# Altium schematic symbol library Public Library.SchLib: 53 symbols
Pins are listed as number, name and electrical type; pins without a type are passive.

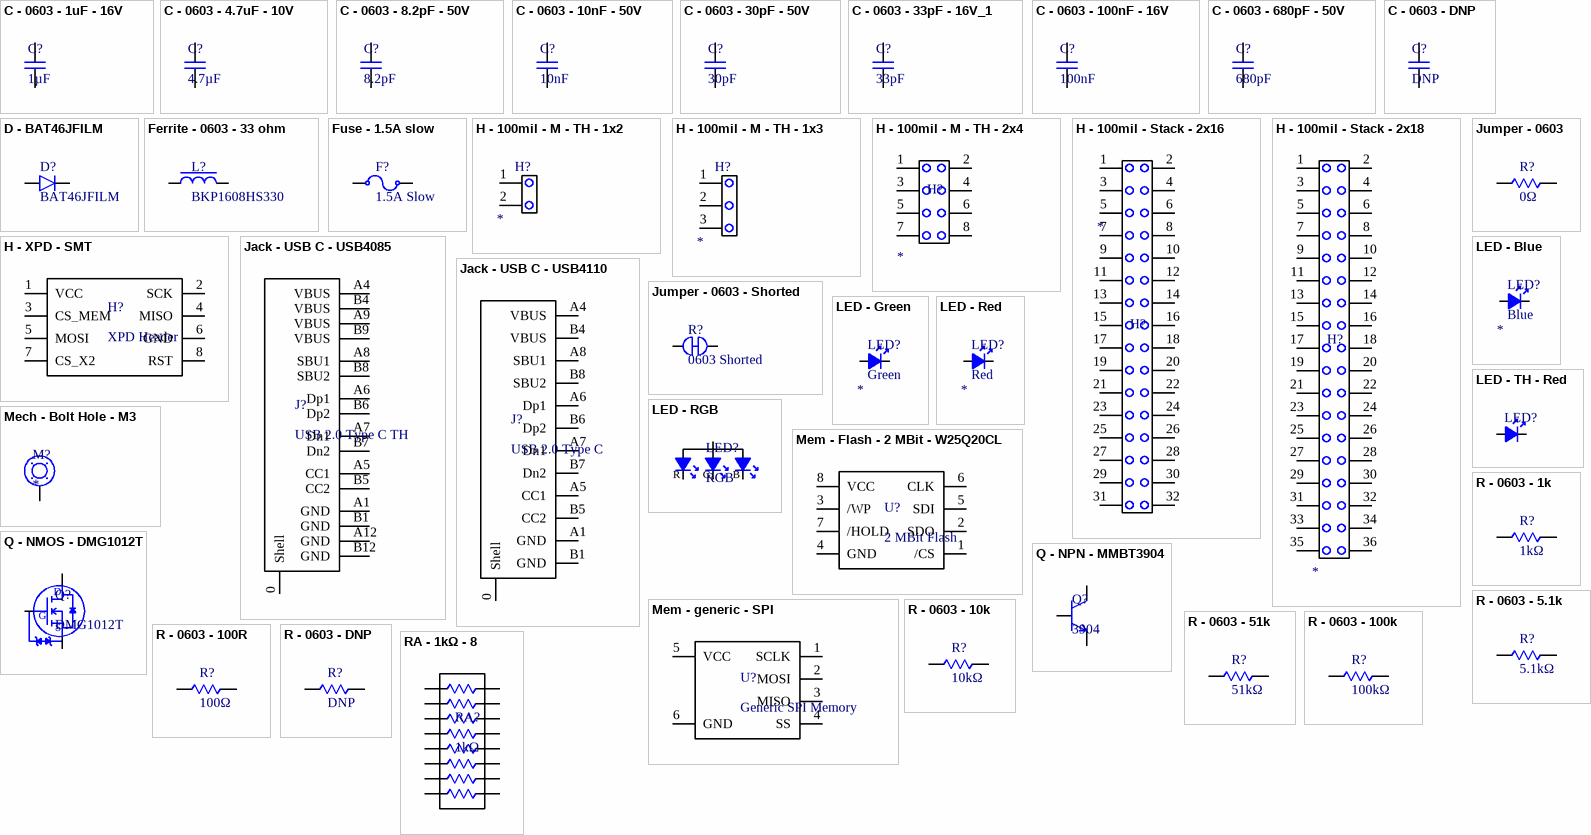
[diagram p0: symbols C - 0603 - 1uF - 16V to RA - 1kΩ - 8]

## C - 0603 - 1uF - 16V
designator C?, comment 1µF
CAP CER 1UF 16V X5R 0603; MFG: Yageo; MFG PN: CC0603KRX5R7BB105; Tolerance: ±10%; Op Temp: -55°C ~ 85°C; Digi-Key PN: 311-1444-1-ND; Value: 1µF; Package: 0603; Temp Coeff: X5R; Series: CC; Price/1 @10: $0.10700; Height: 0.90mm; Composition: Ceramic; Voltage - Rated: 16V; Mounting Type: Surface Mount, MLCC
footprint 0603 - C (from Yageo R)
pins: 1, 2

## C - 0603 - 4.7uF - 10V
designator C?, comment 4.7µF
CAP CER 4.7UF 10V X5R 0603; MFG: Yageo; MFG PN: CC0603MRX5R6BB475; Tolerance: ±20%; Op Temp: -55°C ~ 85°C; Digi-Key PN: 311-1820-1-ND; Value: 4.7µF; Package: 0603; Temp Coeff: X5R; Series: CC; Price/1 @10: $0.172; Height: 0.90mm; Composition: Ceramic; Voltage - Rated: 10V; Mounting Type: Surface Mount, MLCC
footprint 0603 - C (from Yageo R)
pins: 1, 2

## C - 0603 - 8.2pF - 50V
designator C?, comment 8.2pF
CAP CER 8.2PF 50V NPO 0603; MFG: Yageo; MFG PN: CC0603CRNPO9BN8R2; Tolerance: ±0.25pF; Temp Coeff: NP0; Op Temp: -55°C ~ 125°C; Digi-Key PN: 311-3865-1-ND; Value: 8.2pF; Package: 0603; Series: CC; Price/1 @10: $0.084; Height: 0.90mm; Composition: Ceramic; Voltage - Rated: 50V; Mounting Type: Surface Mount, MLCC
footprint 0603 - C (from Yageo R)
pins: 1, 2

## C - 0603 - 10nF - 50V
designator C?, comment 10nF
CAP CER 10000PF 50V X7R 0603; MFG: Yageo; MFG PN: CC0603JRX7R9BB103; Tolerance: ±5%; Op Temp: -55°C ~ 125°C; Digi-Key PN: 311-1778-1-ND; Value: 10000pF; Package: 0603; Temp Coeff: X7R; Series: CC; Price/1 @10: $0.072; Height: 0.90mm; Composition: Ceramic; Voltage - Rated: 50V; Mounting Type: Surface Mount, MLCC; Size: 1.60mm x 0.80mm
footprint 0603 - C (from Yageo R)
pins: 1, 2

## C - 0603 - 30pF - 50V
designator C?, comment 30pF
CAP CER 30PF 50V NPO 0603; MFG: Yageo; MFG PN: CC0603JRNPO9BN300; Tolerance: ±5%; Temp Coeff: NP0; Op Temp: -55°C ~ 125°C; Digi-Key PN: 311-3357-1-ND; Value: 30pF; Package: 0603; Series: CC; Price/1 @10: $0.094; Height: 0.90mm; Composition: Ceramic; Voltage - Rated: 50V; Mounting Type: Surface Mount, MLCC
footprint 0603 - C (from Yageo R)
pins: 1, 2

## C - 0603 - 33pF - 16V_1
designator C?, comment 33pF
CAP CER 33PF 50V C0G/NPO 0603; MFG: Yageo; MFG PN: CC0603JRNPO9BN330; Tolerance: ±5%; Temp Coeff: NP0; Op Temp: -55°C ~ 125°C; Digi-Key PN: 311-1064-1-ND; Value: 33pF; Package: 0603; Series: CC; Price/1 @10: $0.058; Height: 0.9 mm; Composition: Ceramic; Voltage - Rated: 50V; Mounting Type: Surface Mount, MLCC
footprint 0603 - C (from Yageo R)
pins: 1, 2

## C - 0603 - 100nF - 16V
designator C?, comment 100nF
CAP CER 0.1UF 16V X7R 0603; MFG: Yageo; MFG PN: CC0603KRX7R7BB104; Value: 0.1µF; Tolerance: ±10%; Op Temp: -55°C ~ 125°C; Digi-Key PN: 311-1088-1-ND; Package: 0603; Temp Coeff: X7R; Series: CC; Price/1 @10: $0.064; Height: 0.9 mm; Composition: Ceramic; Voltage - Rated: 16V; Mounting Type: Surface Mount, MLCC
footprint 0603 - C (from Yageo R)
pins: 1, 2

## C - 0603 - 680pF - 50V
designator C?, comment 680pF
CAP CER 680PF 50V X7R 0603; MFG: Yageo; MFG PN: CC0603KRX7R9BB681; Tolerance: ±10%; Op Temp: -55°C ~ 125°C; Digi-Key PN: 311-1188-1-ND; Value: 680pF; Package: 0603; Temp Coeff: X7R; Series: CC; Price/1 @10: $0.062; Height: 0.90mm; Composition: ceramic; Voltage - Rated: 50V; Mounting Type: Surface Mount, MLCC
footprint 0603 - C (from Yageo R)
pins: 1, 2

## C - 0603 - DNP
designator C?, comment DNP
DNP C 0603; MFG: -; MFG PN: -; Digi-Key PN: -; Value: DNP; Package: 0603; Mounting Type: SMT
footprint 0603 - C - DNP (from Yageo R)
pins: 1, 2

## D - BAT46JFILM
designator D?, comment BAT46JFILM
DIODE SCHOTTKY 100V 150MA SOD323; MFG: ST; Op Temp: 150°C (Max); Current - Average Rectified (Io): 150mA (DC); Speed: Small Signal =< 200mA (Io), Any Speed; Capacitance @ Vr, F: 10pF @ 0V, 1MHz; Voltage - Forward (Vf) (Max) @ If: 450mV @ 10mA; Current - Reverse Leakage @ Vr: 5µA @ 75V; Digi-Key PN: 497-6653-1-ND; MFG PN: BAT46JFILM; Mounting Type: Surface Mount; Package: SOD-323; Price/1 @10: $0.231; Series: -; Diode Type: Schottky; Voltage - DC Reverse (Vr) (Max): 100V; ComponentLink1Description: Datasheet; ComponentLink1URL: E:\!Projects\50. XInC2 Dev 2\git\Datasheets\ST - BAT46.pdf; ComponentLink2Description: Online Datasheet; ComponentLink2URL: https://www.st.com/content/ccc/resource/technical/document/datasheet/c6/32/d4/4a/28/d3/4b/11/CD00004930.pdf/files/CD00004930.pdf/jcr:content/translations/en.CD00004930.pdf
footprint SOD 323
pins: 1, 2

## Ferrite - 0603 - 33 ohm
designator L?, comment BKP1608HS330
FERRITE BEAD 33 OHM 0603 1LN; MFG: Taiyo Yuden; MFG PN: BKP1608HS330-T; Op Temp: -55°C ~ 85°C; Filter Type: Power Line; Current Rating (Max): 3A; DC Resistance (DCR) (Max): 25mOhm; Number of Lines: 1; Impedance @ Frequency: 33 Ohms @ 100MHz; Digi-Key PN: 587-1926-1-ND; Height: 0.95mm; Mounting Type: Surface Mount; Package: 0603; Series: BK; Size: 1.60mm x 0.80mm; Price/1 @10: $0.10
footprint 0603 - R (from Yageo)
pins: 1, 2

## Fuse - 1.5A slow
designator F?, comment 1.5A Slow
FUSE 1.5A 63VAC/DC SLOW 1206; MFG: Bel Fuse Inc.; MFG PN: 0685T1500-01; Fuse Type: Board Mount (Cartridge Style Excluded); Response Time: Slow Blow; Breaking Capacity @ Rated Voltage: 50A; Approval Agency: AEC-Q200, CE, cURus; Op Temp: -55°C ~ 125°C; Melting I²t: 0.23; Voltage Rating - AC: 63V; DC Cold Resistance: 0.205 Ohms; Digi-Key PN: 507-1893-1-ND; Price/1 @10: $0.342; Series: C1T; Mounting Type: Surface Mount; Package: 1206; Current Rating (Amps): 1.5A; Voltage Rating - DC: 63V; ComponentLink1Description: Datasheet; ComponentLink1URL: E:\!Projects\50. XInC2 Dev 2\git\Datasheets\Bel Fuse - Type C1T.pdf; ComponentLink2Description: Online Datasheet; ComponentLink2URL: https://belfuse.com/resources/datasheets/circuitprotection/ds-cp-c1t-series.pdf
footprint Fuse - C1T Series
pins: 1, 2

## H - 100mil - M - TH - 1x2
designator H?
CONN HEADER VERT 2POS 2.54MM; Purpose: *
footprint H - 100mil - 1x2 - TH (generic)
pins: 1, 2

## H - 100mil - M - TH - 1x3
designator H?
CONN HEADER VERT 3POS 2.54MM; Purpose: *
footprint H - 100mil - 1x3 - TH (generic)
pins: 1, 2, 3

## H - 100mil - M - TH - 2x4
designator H?
Purpose: *
footprint H - 100mil - 2x4 - TH - DNP (generic)
pins: 1, 2, 3, 4, 5, 6, 7, 8

## H - 100mil - Stack - 2x16
designator H?, comment SSQ-116-03-T-D  (value not drawn)
CONN RCPT 32POS 0.1 TIN PCB; MFG: Samtec; Op Temp: -55°C ~ 105°C; Connector Type: Receptacle; Style: Board to Board or Cable; Number of Positions: 32; Number of Positions Loaded: All; Pitch - Mating: 0.100"; Contact Length - Post: 10.00mm; Material Flammability Rating: UL94 V-0; Current Rating (Amps): 6.3A per Contact; Voltage Rating: 550VAC; Digi-Key PN: SAM1204-16-ND; MFG PN: SSQ-116-03-T-D; Mounting Type: Thorugh Hole; Price/1 @10: $3.751; Series: SSQ; Contact Type: Forked; Row Spacing - Mating: 0.100"; Termination: Solder; Fastening Type: Push-Pull; Contact Finish - Mating: Tin; Insulation Color: Black; Insulation Height: 8.51mm; Contact Finish - Post: Tin; Insulation Material: Liquid Crystal Polymer (LCP); Contact Shape: Square; Number of Rows: 2; ComponentLink1Description: Datasheet; ComponentLink1URL: E:\!Projects\50. XInC2 Dev 2\git\Datasheets\Samtec - SSQ Series Headers.pdf; ComponentLink2Description: Online Datasheet; ComponentLink2URL: http://suddendocs.samtec.com/catalog_english/ssq_th.pdf; Purpose: *
footprint H - 100mil - 2x16 - Stack - bottom insert
pins: 1, 2, 3, 4, 5, 6, 7, 8, 9, 10, 11, 12, 13, 14, 15, 16, 17, 18, 19, 20, 21, 22, 23, 24, 25, 26, 27, 28, 29, 30, 31, 32

## H - 100mil - Stack - 2x18
designator H?, comment SSQ-118-03-T-D  (value not drawn)
CONN RCPT 36POS 0.1 TIN PCB; MFG: Samtec; Op Temp: -55°C ~ 105°C; Connector Type: Receptacle; Style: Board to Board or Cable; Number of Positions: 36; Number of Positions Loaded: All; Pitch - Mating: 0.100"; Contact Length - Post: 10.00mm; Material Flammability Rating: UL94 V-0; Current Rating (Amps): 6.3A per Contact; Voltage Rating: 550VAC; Digi-Key PN: SAM1204-18-ND; MFG PN: SSQ-118-03-T-D; Mounting Type: Thorugh Hole; Price/1 @10: $4.718; Series: SSQ; Contact Type: Forked; Row Spacing - Mating: 0.100"; Termination: Solder; Fastening Type: Push-Pull; Contact Finish - Mating: Tin; Insulation Color: Black; Insulation Height: 8.51mm; Contact Finish - Post: Tin; Insulation Material: Liquid Crystal Polymer (LCP); Contact Shape: Square; Number of Rows: 2; ComponentLink1Description: Datasheet; ComponentLink1URL: E:\!Projects\50. XInC2 Dev 2\git\Datasheets\Samtec - SSQ Series Headers.pdf; ComponentLink2Description: Online Datasheet; ComponentLink2URL: http://suddendocs.samtec.com/catalog_english/ssq_th.pdf; Purpose: *
footprint H - 100mil - 2x18 - Stack - bottom insert
pins: 1, 2, 3, 4, 5, 6, 7, 8, 9, 10, 11, 12, 13, 14, 15, 16, 17, 18, 19, 20, 21, 22, 23, 24, 25, 26, 27, 28, 29, 30, 31, 32, 33, 34, 35, 36

## H - XPD - SMT
designator H?, comment XPD Header
CONN HEADER SMD 8POS 1.27MM; MFG: Samtec Inc.; MFG PN: FTS-104-01-L-DV; Op Temp: -55°C ~ 125°C; Connector Type: Header, Cuttable; Pitch - Mating: 0.050"" (1.27mm); Number of Positions: 8; Shrouding: Unshrouded; Contact Length - Mating: 0.120"" (3.05mm); Material Flammability Rating: UL94 V-0; Current Rating (Amps): 3.4A per Contact; Digi-Key PN: SAM1157-04-ND; Height: 4.32mm; Mounting Type: Surface Mount; Price/1 @10: $1.616; Series: FTS; Contact Type: Male Pin; Number of Rows: 2; Row Spacing - Mating: 0.050"" (1.27mm); Termination: Solder; Fastening Type: Push-Pull; Insulation Height: 0.034"" (0.86mm); Contact Shape: Square; Contact Finish - Mating: Gold; Insulation Material: Liquid Crystal Polymer (LCP); Insulation Color: Black; ComponentLink1Description: Datasheet; ComponentLink1URL: E:\!Projects\50. XInC2 Dev 2\git\Datasheets\Samtec - FTS series.pdf; ComponentLink2Description: Online Datasheet; ComponentLink2URL: http://suddendocs.samtec.com/catalog_english/fts.pdf
footprint H - XPD
pins: 1 VCC, 2 SCK, 3 CS_MEM, 4 MISO, 5 MOSI, 6 GND, 7 CS_X2, 8 RST

## Jack - USB C - USB4085
designator J?, comment USB 2.0 Type C TH
CONN RCPT USB2.0 TYPEC 16POS; MFG: GCT; MFG PN: USB4085-GF-A; Op Temp: -40°C ~ 85°C; Connector Type: USB-C (USB TYPE-C); Number of Contacts: 24 (16+8 Dummy); Gender: Receptacle; Current Rating (Amps): 0.25A, 1.25A, 3A, 4.25A; Voltage - Rated: 20VDC; Mating Cycles: 10000; Shielding: Shielded; Material Flammability Rating: UL94 V-0; Number of Ports: 1; Digi-Key PN: 2073-USB4085-GF-ACT-ND; Height: 3.46mm; Mounting Type: Through Hole, Right Angle; Price/1 @10: $1.629; Series: USB4085; Specifications: USB 2.0; Mounting Feature: Horizontal; Contact Finish: Gold; Shell/Shielding Material: Steel, Stainless; Insulation Color: Black; ComponentLink1Description: Datasheet; ComponentLink1URL: E:\!Projects\50. XInC2 Dev 2\git\Datasheets\GCT - USB4085.pdf; ComponentLink2Description: Online Datasheet; ComponentLink2URL: https://gct.co/files/drawings/usb4085.pdf
footprint Jack - USB C - 2.0 - TH (from 2073-USB4085-GF-ACT-ND)
pins: 0 Shell, A1 GND, A4 VBUS, A5 CC1, A6 Dp1, A7 Dn1, A8 SBU1, A9 VBUS, A12 GND, B1 GND, B4 VBUS, B5 CC2, B6 Dp2, B7 Dn2, B8 SBU2, B9 VBUS, B12 GND

## Jack - USB C - USB4110
designator J?, comment USB 2.0 Type C
CONN USB 2.0 TYPE-C R/A SMT; MFG: GCT; MFG PN: USB4110-GF-A; Op Temp: -40°C ~ 85°C; Connector Type: USB-C (USB TYPE-C); Number of Contacts: 24 (16+8 Dummy); Gender: Receptacle; Specifications: USB 2.0; Current Rating (Amps): 0.25A, 1.25A, 3A, 4.25A; Voltage - Rated: 20VDC; Mating Cycles: 10000; Shielding: Shielded; Material Flammability Rating: UL94 V-0; Number of Ports: 1; Digi-Key PN: 2073-USB4110-GF-A-1-ND; Height: 3.26mm; Mounting Type: Surface Mount, Right Angle; Through Hole; Price/1 @10: $1.631; Series: USB4110; Mounting Feature: Horizontal; Contact Finish: Gold; Shell/Shielding Material: Steel, Stainless; Insulation Color: Black; ComponentLink1Description: Datasheet; ComponentLink1URL: E:\!Projects\50. XInC2 Dev 2\git\Datasheets\CGT - USB4110.pdf; ComponentLink2Description: Online Datasheet; ComponentLink2URL: https://gct.co/files/drawings/usb4110.pdf
footprint Jack - USB C - 2.0 - SMT (from 2073-USB4110-GF-A-1-ND)
pins: 0 Shell, A1 GND, A4 VBUS, A5 CC1, A6 Dp1, A7 Dn1, A8 SBU1, B1 GND, B4 VBUS, B5 CC2, B6 Dp2, B7 Dn2, B8 SBU2

## Jumper - 0603
designator R?, comment 0Ω
RES SMD 0 OHM JUMPER 1/10W 0603; MFG PN: RC0603JR-070RL; MFG: Yageo; Power: 0.1W; Op Temp: -55°C ~ 155°C; Value: 0 Ohms; Footprint: 0603; Digi-Key PN: 311-0.0GRCT-ND; Price/1 @10: $0.025; Temp Coeff: -; Height: 0.55mm; Package: 0603; Composition: Thick Film; Tolerance: Jumper; Series: RC; Mounting Type: Surface Mount
footprint 0603 - R (from Yageo)
pins: 1, 2

## Jumper - 0603 - Shorted
designator R?, comment 0603 Shorted
DNP: 0603 Resistor with the pads shorted; MFG PN: RC0603JR-070RL; MFG: Yageo; Power: 0.1W; Op Temp: -55°C ~ 155°C; Value: 0 Ohms; Tolerance: Jumper; Footprint: 0603; Digi-Key PN: 311-0.0GRCT-ND; Price/1 @10: $0.025; Temp Coeff: -; Height: 0.55mm; Package: 0603; Composition: Thick Film; Series: RC; Mounting Type: Surface Mount
footprint 0603 - R - shorted jumper (from Yageo)
pins: 1, 2

## LED - Blue
designator LED?, comment Blue
LED BLUE CLEAR CHIP SMD; MFG: Lite-On Inc.; MFG PN: LTST-C190TBKT; Lens Color: Colorless; Millicandela Rating: 104mcd; Lens Style: Rectangle with Flat Top; Lens Size: 1.10mm x 0.80mm; Voltage - Forward (Vf) (Typ): 3.3V; Current - Test: 20mA; Viewing Angle: 130°; Wavelength - Dominant: 470nm; Wavelength - Peak: 468nm; Digi-Key PN: 160-1646-1-ND; Height: 0.90mm; Mounting Type: Surface Mount; Package: 0603; Size: 1.60mm L x 0.80mm W; Color: Blue; Lens Transparency: Clear; ComponentLink1Description: Online; ComponentLink1URL: E:\!Projects\50. XInC2 Dev 2\git\Datasheets\Lite-On - Blue - LTST-C190TBKT.PDF; ComponentLink2Description: Online Datasheet; ComponentLink2URL: https://optoelectronics.liteon.com/upload/download/DS-22-99-0224/LTST-C190TBKT.PDF; Price/1 @10: $0.378; Purpose: *
footprint LED - Blue - 0603 (from 160-1436-1-ND)
pins: 1, 2

## LED - Green
designator LED?, comment Green
LED GREEN CLEAR CHIP SMD; MFG: Lite-On Inc.; MFG PN: LTST-C190KGKT; Lens Color: Colorless; Millicandela Rating: 35mcd; Lens Style: Rectangle with Flat Top; Lens Size: 1.10mm x 0.80mm; Voltage - Forward (Vf) (Typ): 2V; Current - Test: 20mA; Viewing Angle: 130°; Wavelength - Dominant: 571nm; Wavelength - Peak: 574nm; Digi-Key PN: 160-1435-1-ND; Height: 0.90mm; Mounting Type: Surface Mount; Package: 0603; Size: 1.60mm L x 0.80mm W; Color: Green; Lens Transparency: Clear; Price/1 @10: $0.183; ComponentLink1Description: Datasheet; ComponentLink1URL: E:\!Projects\50. XInC2 Dev 2\git\Datasheets\Lite-On - Green - LTST-C190KGKT.pdf; ComponentLink2Description: Online Datasheet; ComponentLink2URL: https://optoelectronics.liteon.com/upload/download/DS22-2000-074/LTST-C190KGKT.PDF; Purpose: *
footprint LED - Green - 0603 (from 160-1436-1-ND)
pins: 1, 2

## LED - Red
designator LED?, comment Red
LED RED CLEAR CHIP SMD; MFG: Lite-On Inc.; MFG PN: LTST-C190KRKT; Lens Color: Colorless; Millicandela Rating: 99mcd; Lens Style: Rectangle with Flat Top; Lens Size: 1.10mm x 0.80mm; Voltage - Forward (Vf) (Typ): 2V; Current - Test: 20mA; Viewing Angle: 130°; Wavelength - Dominant: 631nm; Wavelength - Peak: 639nm; Digi-Key PN: 160-1436-1-ND; Height: 0.90mm; Mounting Type: Surface Mount; Package: 0603; Size: 1.60mm L x 0.80mm W; Color: Red; Lens Transparency: Clear; Price/1 @10: $0.183; ComponentLink1Description: Datasheet; ComponentLink1URL: E:\!Projects\50. XInC2 Dev 2\git\Datasheets\Lite-On - Red - LTST-C190KRKT.pdf; ComponentLink2Description: Online Datasheet; ComponentLink2URL: https://optoelectronics.liteon.com/upload/download/DS-22-99-0151/LTST-C190KRKT.pdf; Purpose: *
footprint LED - Red - 0603 (from 160-1436-1-ND)
pins: 1, 2

## LED - RGB
designator LED?, comment RGB
LED RGB CLEAR 4SMD; MFG: Everlight Electronics; MFG PN: EAST1616RGBB4; Lens Color: Colorless; Lens Style: Rectangle with Flat Top; Lens Size: 1.60mm x 1.10mm; Voltage - Forward (Vf) (Typ): 1.8V Red, 2.8V Green, 2.8V Blue; Current - Test: 5mA Red, 5mA Green, 5mA Blue; Viewing Angle: 120°; Wavelength - Peak: 632nm Red, 518nm Green, 468nm Blue; Digi-Key PN: 1080-1552-1-ND; Height: 0.45mm; Mounting Type: Surface Mount; Package: 0606; Size: 1.60mm L x 1.60mm W; Color: RGB; Lens Transparency: Clear; Millicandela Rating: -; Wavelength - Dominant: -; Price/1 @10: $0.415; Purpose: *; ComponentLink1Description: Datasheet; ComponentLink1URL: E:\!Projects\50. XInC2 Dev 2\git\Datasheets\Everlight - EAST1616RGBB4.PDF; ComponentLink2Description: Online Datasheet; ComponentLink2URL: https://everlightamericas.com/index.php?controller=attachment&id_attachment=2827
footprint LED - RGB - 0606 (from 1080-1552-1-ND)
pins: 1, 2, 3, 4
text: R; G; B

## LED - TH - Red
designator LED?, comment Red  (value not drawn)
LED RED DIFFUSED 5MM ROUND T/H; MFG: Würth Elektronik; MFG PN: 151051RS11000; Millicandela Rating: 30mcd; Lens Style: Round with Domed Top; Lens Size: 4.90mm Dia; Voltage - Forward (Vf) (Typ): 2.1V; Current - Test: 20mA; Viewing Angle: 60°; Wavelength - Dominant: 645nm; Wavelength - Peak: 650nm; Digi-Key PN: 732-5016-ND; Height: 8.95mm; Mounting Type: Through Hole; Package: Radial; Color: Red; Lens Color: Red; Lens Transparency: Diffused; Price/1 @10: $0.22; ComponentLink1Description: Datasheet; ComponentLink1URL: E:\!Projects\50. XInC2 Dev 2\git\Datasheets\Wurth - 151051RS11000 - TH LED.pdf; ComponentLink2Description: Online Datasheet; ComponentLink2URL: https://www.we-online.de/katalog/datasheet/151051RS11000.pdf; Series: WL-TMRC; Purpose: *
footprint LED - RED - TH (from 732-5016-ND)
pins: 1, 2

## Mech - Bolt Hole - M3
designator M?
footprint Bolt Hole - M3
pins: 1

## Mem - Flash - 2 MBit - W25Q20CL
designator U?, comment 2 MBit Flash
IC FLASH 2MBIT SPI 104MHZ 8SOIC; MFG: Winbond Electronics; MFG PN: W25Q20CLSNIG; Memory Type: Non-Volatile; Memory Size: 2Mb (256K x 8); Write Cycle Time - Word, Page: 800µs; Voltage - Supply: 2.3V ~ 3.6V; Op Temp: -40°C ~ 85°C (TA); ComponentLink1Description: Datasheet; ComponentLink1URL: E:\!Projects\50. XInC2 Dev 2\git\Datasheets\Winbond - W25Q20CLA.pdf; ComponentLink2Description: Online Datasheet; ComponentLink2URL: https://www.winbond.com/resource-files/da00-w25q20cla1.pdf; Digi-Key PN: W25Q20CLSNIG-ND; Price/1 @10: $0.497; Series: SpiFlash; Technology: FLASH - NOR; Memory Interface: SPI; Mounting Type: Surface Mount; Package: 8-SOIC (0.154"", 3.90mm Width); Clock Frequency: 104MHz
footprint SOIC 8
pins: 1 /CS, 2 SDO, 3 /WP, 4 GND, 5 SDI, 6 CLK, 7 /HOLD, 8 VCC

## Mem - generic - SPI
designator U?, comment Generic SPI Memory
pins: 1 SCLK, 2 MOSI, 3 MISO, 4 SS, 5 VCC, 6 GND

## Q - NMOS - DMG1012T
designator Q?, comment DMG1012T
MOSFET N-CH 20V 630MA SOT-523; MFG: Diodes Inc; MFG PN: DMG1012T-7; Op Temp: -55°C ~ 150°C (TJ); FET Type: N-Channel; Current - Continuous Drain (Id) @ 25°C: 630mA (Ta); Drive Voltage (Max Rds On, Min Rds On): 1.8V, 4.5V; Rds On (Max) @ Id, Vgs: 400mOhm @ 600mA, 4.5V; Vgs(th) (Max) @ Id: 1V @ 250µA; Vgs (Max): ±6V; Power Dissipation (Max): 280mW (Ta); Gate Charge (Qg) (Max) @ Vgs: 0.74nC @ 4.5V; Input Capacitance (Ciss) (Max) @ Vds: 60.67pF @ 16V; Digi-Key PN: DMG1012T-7DICT-ND; Mounting Type: Surface Mount; Package: SOT-523; Price/1 @10: $0.198; Technology: MOSFET (Metal Oxide); Drain to Source Voltage (Vdss): 20V; ComponentLink1Description: Datasheets; ComponentLink1URL: E:\!Projects\50. XInC2 Dev 2\git\Datasheets\Diodes Inc - DMG1012T.pdf; ComponentLink2Description: Online Datasheet; ComponentLink2URL: https://www.diodes.com/assets/Datasheets/ds31783.pdf
pins: D Drain, G Gate, S Source

## Q - NPN - MMBT3904
designator Q?, comment 3904
TRANS NPN 40V 0.2A SOT23; MFG: Micro Commercial; MFG PN: MMBT3904-TP; Op Temp: -55°C ~ 150°C (TJ); Vce Saturation (Max) @ Ib, Ic: 300mV @ 5mA, 50mA; Current - Collector Cutoff (Max): 50nA (ICBO); DC Current Gain (hFE) (Min) @ Ic, Vce: 100 @ 10mA, 1V; Frequency - Transition: 300MHz; Current - Collector (Ic) (Max): 200mA; Power - Max: 350mW; ComponentLink1Description: Datasheet; ComponentLink1URL: E:\!Projects\50. XInC2 Dev 2\git\Datasheets\MCC - MMBT3904.pdf; ComponentLink2Description: Online Datasheet; ComponentLink2URL: https://www.mccsemi.com/pdf/Products/MMBT3904(SOT-23).pdf; Digi-Key PN: MMBT3904TPMSCT-ND; Mounting Type: Surface Mount; Package: SOT-23, TO-236-3, SC-59, SOT-23-3; Price/1 @10: $0.087; Transistor Type: NPN; Voltage - Collector Emitter Breakdown (Max): 40V
footprint SOT 23 - NPN - MCC (from MMBT3904 datasheet)
pins: B, C, E

## R - 0603 - 1k
designator R?, comment 1kΩ
RES SMD 1K OHM 5% 1/10W 0603; MFG PN: RC0603JR-071KL; MFG: Yageo; Power: 0.1W; Temp Coeff: ±100ppm/°C; Op Temp: -55°C ~ 155°C; Value: 1 kOhms; Digi-Key PN: 311-1.0KGRCT-ND; Price/1 @10: $0.02500; Height: 0.55mm; Package: 0603; Composition: Thick Film; Tolerance: 5%; Series: RC; Mounting Type: Surface Mount; ComponentLink1Description: Datasheet; ComponentLink1URL: E:\!Projects\50. XInC2 Dev 2\git\Datasheets\Yageo - RC series.pdf; ComponentLink2Description: Online Datasheet; ComponentLink2URL: https://www.yageo.com/upload/media/product/productsearch/datasheet/rchip/PYu-RC_Group_51_RoHS_L_11.pdf
footprint 0603 - R (from Yageo)
pins: 1, 2

## R - 0603 - 5.1k
designator R?, comment 5.1kΩ
RES SMD 5.1K OHM 5% 1/10W 0603; MFG PN: RC0603JR-075K1L; MFG: Yageo; Power: 0.1W; Temp Coeff: ±100ppm/°C; Op Temp: -55°C ~ 155°C; Value: 5.1 kOhms; Digi-Key PN: 311-5.1KGRCT-ND; Price/1 @10: $0.02500; Height: 0.55mm; Package: 0603; Composition: Thick Film; Tolerance: 5%; Series: RC; Mounting Type: Surface Mount; ComponentLink1Description: Datasheet; ComponentLink1URL: E:\!Projects\50. XInC2 Dev 2\git\Datasheets\Yageo - RC series.pdf; ComponentLink2Description: Online Datasheet; ComponentLink2URL: https://www.yageo.com/upload/media/product/productsearch/datasheet/rchip/PYu-RC_Group_51_RoHS_L_11.pdf
footprint 0603 - R (from Yageo)
pins: 1, 2

## R - 0603 - 10k
designator R?, comment 10kΩ
RES SMD 10K OHM 5% 1/10W 0603; MFG PN: RC0603JR-0710KL; MFG: Yageo; Power: 0.1W; Temp Coeff: ±100ppm/°C; Op Temp: -55°C ~ 155°C; Value: 10 kOhms; Digi-Key PN: 311-10KGRCT-ND; Price/1 @10: $0.017; Height: 0.55mm; Package: 0603; Composition: Thick Film; Tolerance: 5%; Series: RC; Mounting Type: Surface Mount; ComponentLink1Description: Datasheet; ComponentLink1URL: E:\!Projects\50. XInC2 Dev 2\git\Datasheets\Yageo - RC series.pdf; ComponentLink2Description: Online Datasheet; ComponentLink2URL: https://www.yageo.com/upload/media/product/productsearch/datasheet/rchip/PYu-RC_Group_51_RoHS_L_11.pdf
footprint 0603 - R (from Yageo)
pins: 1, 2

## R - 0603 - 51k
designator R?, comment 51kΩ
RES SMD 51K OHM 5% 1/10W 0603; MFG PN: RC0603JR-0751KL; MFG: Yageo; Power: 0.1W; Temp Coeff: ±100ppm/°C; Op Temp: -55°C ~ 155°C; Value: 51 kOhms; Digi-Key PN: 311-51KGRCT-ND; Price/1 @10: $0.025; Height: 0.55mm; Package: 0603; Composition: Thick Film; Tolerance: 5%; Series: RC; Mounting Type: Surface Mount; ComponentLink1Description: Datasheet; ComponentLink1URL: E:\!Projects\50. XInC2 Dev 2\git\Datasheets\Yageo - RC series.pdf; ComponentLink2Description: Online Datasheet; ComponentLink2URL: https://www.yageo.com/upload/media/product/productsearch/datasheet/rchip/PYu-RC_Group_51_RoHS_L_11.pdf
footprint 0603 - R (from Yageo)
pins: 1, 2

## R - 0603 - 100k
designator R?, comment 100kΩ
RES SMD 100K OHM 5% 1/10W 0603; MFG PN: RC0603JR-07100KL; MFG: Yageo; Power: 0.1W; Temp Coeff: ±100ppm/°C; Op Temp: -55°C ~ 155°C; Value: 100 kOhms; Digi-Key PN: 311-100KGRCT-ND; Price/1 @10: $0.025; Height: 0.55mm; Package: 0603; Composition: Thick Film; Tolerance: 5%; Series: RC; Mounting Type: Surface Mount; ComponentLink1Description: Datasheet; ComponentLink1URL: E:\!Projects\50. XInC2 Dev 2\git\Datasheets\Yageo - RC series.pdf; ComponentLink2Description: Online Datasheet; ComponentLink2URL: https://www.yageo.com/upload/media/product/productsearch/datasheet/rchip/PYu-RC_Group_51_RoHS_L_11.pdf
footprint 0603 - R (from Yageo)
pins: 1, 2

## R - 0603 - 100R
designator R?, comment 100Ω
RES SMD 100 OHM 5% 1/10W 0603; MFG PN: RC0603JR-07100RL; MFG: Yageo; Power: 0.1W; Temp Coeff: ±100ppm/°C; Op Temp: -55°C ~ 155°C; Value: 100 Ohms; Digi-Key PN: 311-100GRCT-ND; Price/1 @10: $0.02500; Height: 0.55mm; Package: 0603; Composition: Thick Film; Tolerance: 5%; Series: RC; Mounting Type: Surface Mount; ComponentLink1Description: Datasheet; ComponentLink1URL: E:\!Projects\50. XInC2 Dev 2\git\Datasheets\Yageo - RC series.pdf; ComponentLink2Description: Online Datasheet; ComponentLink2URL: https://www.yageo.com/upload/media/product/productsearch/datasheet/rchip/PYu-RC_Group_51_RoHS_L_11.pdf
footprint 0603 - R (from Yageo)
pins: 1, 2

## R - 0603 - DNP
designator R?, comment DNP
DNP R 0603; MFG PN: -; MFG: -; Digi-Key PN: -; Value: DNP; Package: 0603; Mounting Type: SMT
footprint 0603 - R - DNP (from Yageo)
pins: 1, 2

## RA - 1kΩ - 8
designator RA?, comment 1kΩ
RES ARRAY 8 RES 1K OHM 1606; Circuit Type: Isolated; Tolerance: ±5%; Number of Resistors: 8; Power Per Element: 62.5mW; Temp Coeff: ±200ppm/°C; Op Temp: -55°C ~ 155°C; Digi-Key PN: YC248J-1.0KCT-ND; Series: YC248; Value: 1kΩ; Mounting Type: Surface Mount; Package: 1606, Convex, Long Side Terminals; Height: 0.55mm; Number of Pins: 16; ComponentLink1Description: Datasheet; ComponentLink1URL: E:\!Projects\50. XInC2 Dev 2\git\Datasheets\Yageo - YC TC Series.pdf; ComponentLink2Description: Online Datasheet; ComponentLink2URL: https://www.yageo.com/upload/media/product/productsearch/datasheet/rchip/PYu-YC_TC_group_51_RoHS_L_9.pdf
footprint 0616 - 8 R array (from YC248J-100CT-ND)
pins: 1, 2, 3, 4, 5, 6, 7, 8, 9, 10, 11, 12, 13, 14, 15, 16

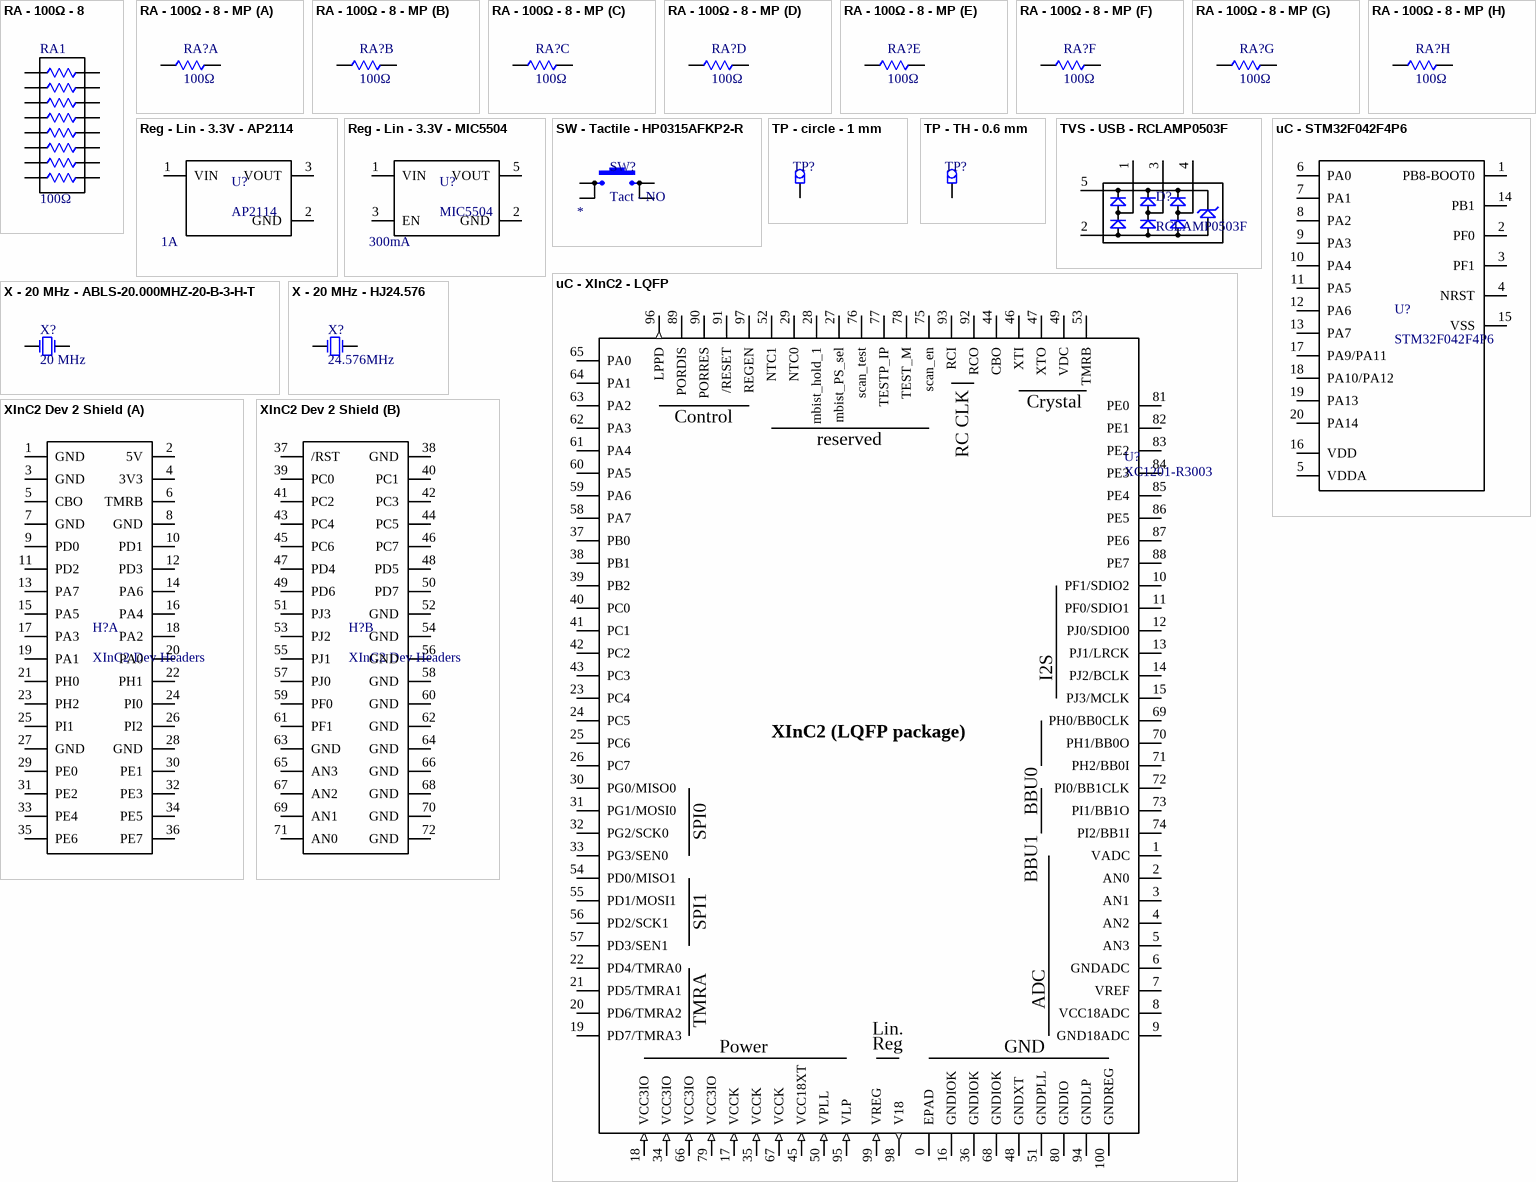
[diagram p1: symbols RA - 100Ω - 8 to XInC2 Dev 2 Shield]

## RA - 100Ω - 8
designator RA1, comment 100Ω
RES ARRAY 8 RES 100 OHM 1606; Circuit Type: Isolated; Tolerance: ±5%; Number of Resistors: 8; Power Per Element: 62.5mW; Temp Coeff: ±200ppm/°C; Op Temp: -55°C ~ 155°C; Digi-Key PN: YC248J-100CT-ND; Series: YC248; Value: 100Ω; Mounting Type: Surface Mount; Package: 1606, Convex, Long Side Terminals; Height: 0.55mm; Number of Pins: 16; ComponentLink1Description: Datasheet; ComponentLink1URL: E:\!Projects\50. XInC2 Dev 2\git\Datasheets\Yageo - YC TC Series.pdf; ComponentLink2Description: Online Datasheet; ComponentLink2URL: https://www.yageo.com/upload/media/product/productsearch/datasheet/rchip/PYu-YC_TC_group_51_RoHS_L_9.pdf
footprint 0616 - 8 R array (from YC248J-100CT-ND)
pins: 1, 2, 3, 4, 5, 6, 7, 8, 9, 10, 11, 12, 13, 14, 15, 16

## RA - 100Ω - 8 - MP
designator RA?, comment 100Ω
RES ARRAY 8 RES 100 OHM 1606; Circuit Type: Isolated; Tolerance: ±5%; Number of Resistors: 8; Power Per Element: 62.5mW; Temp Coeff: ±200ppm/°C; Op Temp: -55°C ~ 155°C; Digi-Key PN: YC248J-100CT-ND; Series: YC248; Value: 100Ω; Mounting Type: Surface Mount; Package: 1606, Convex, Long Side Terminals; Height: 0.55mm; Number of Pins: 16; ComponentLink1Description: Datasheet; ComponentLink1URL: E:\!Projects\50. XInC2 Dev 2\git\Datasheets\Yageo - YC TC Series.pdf; ComponentLink2Description: Online Datasheet; ComponentLink2URL: https://www.yageo.com/upload/media/product/productsearch/datasheet/rchip/PYu-YC_TC_group_51_RoHS_L_9.pdf
footprint 0616 - 8 R array (from YC248J-100CT-ND)
part A pins: 1, 16
part B pins: 2, 15
part C pins: 3, 14
part D pins: 4, 13
part E pins: 5, 12
part F pins: 6, 11
part G pins: 7, 10
part H pins: 8, 9

## Reg - Lin - 3.3V - AP2114
designator U?, comment AP2114  Current - Output: 1A
IC REG LINEAR 3.3V 1A SOT223; MFG: Diodes Inc; MFG PN: AP2114HA-3.3TRG1; Op Temp: -40°C ~ 85°C; Output Configuration: Positive; Output Type: Fixed; Voltage - Input (Max): 6V; Voltage Dropout (Max): 0.75V @ 1A; PSRR: 65dB (100Hz ~ 1kHz); Protection Features: Over Current, Over Temperature; Number of Regulators: 1; Current - Quiescent (Iq): 90µA; ComponentLink1Description: Datasheet; ComponentLink1URL: E:\!Projects\50. XInC2 Dev 2\git\Datasheets\BCD - AP2114.pdf; ComponentLink2Description: Online Datasheet; ComponentLink2URL: https://www.diodes.com/assets/Datasheets/AP2114.pdf; Digi-Key PN: AP2114HA-3.3TRG1DICT-ND; Height: 1.8 mm; Mounting Type: Surface Mount; Package: TO-261-4, TO-261AA, SOT-223; Price/1 @10: $0.444; Voltage - Output (Min/Fixed): 3.3V; Voltage - Output (Max): -
footprint SOT 223
pins: 1 VIN, 2 GND, 3 VOUT

## Reg - Lin - 3.3V - MIC5504
designator U?, comment MIC5504  Current - Output: 300mA
IC REG LINEAR 3.3V 300MA SOT23-5; MFG: Microchip Tech; MFG PN: MIC5504-3.3YM5-TR; Op Temp: -40°C ~ 125°C; Output Configuration: Positive; Output Type: Fixed; Voltage - Input (Max): 5.5V; Voltage Dropout (Max): 0.38V @ 300mA; PSRR: 60dB (1kHz); Control Features: Enable; Protection Features: Over Current, Over Temperature; Number of Regulators: 1; Current - Quiescent (Iq): 55µA; Current - Supply (Max): 65µA; ComponentLink1Description: Datasheet; ComponentLink1URL: E:\!Projects\50. XInC2 Dev 2\git\Datasheets\Microchip - MIC5504.pdf; ComponentLink2Description: Online Datasheet; ComponentLink2URL: https://ww1.microchip.com/downloads/en/DeviceDoc/MIC5501-02-03-04-300mA-Single-Output-LDO-in-Small-Packages-DS20006006B.pdf; Digi-Key PN: 576-4764-1-ND; Height: 1.45 mm; Mounting Type: Surface Mount; Package: SC-74A, SOT-753, SOT-23-5; Price/1 @10: $0.19; Voltage - Output (Min/Fixed): 3.3V; Voltage - Output (Max): -
pins: 1 VIN, 2 GND, 3 EN, 5 VOUT

## SW - Tactile - HP0315AFKP2-R
designator SW?, comment Tact - NO
SWITCH TACTILE SPST-NO 3VA 28V; MFG: NKK Switches; MFG PN: HP0315AFKP2-R; Switch Function: Off-Mom; Contact Rating @ Voltage: 3VA @ 28VDC; Actuator Type: Standard; Actuator Height off PCB, Vertical: 4.40mm; Actuator Orientation: Top Actuated; Outline: 6.20mm x 6.20mm; Illumination: Non-Illuminated; Operating Force: 160gf; Op Temp: -20°C ~ 70°C; Actuator Material: Polyamide (PA), Nylon, Glass Filled; Switch Travel: 0.20mm; Mechanical Life: 500,000 Cycles; ComponentLink1Description: Datasheet; ComponentLink1URL: E:\!Projects\50. XInC2 Dev 2\git\Datasheets\NKK Switches - HP03 Switches.pdf; ComponentLink2Description: Online Datasheet; ComponentLink2URL: https://www.nkkswitches.com/pdf/HP03-2.pdf; Digi-Key PN: 360-2595-1-ND; Mounting Type: Surface Mount; Price/1 @10: $0.78; Series: HP03; Circuit: SPST-NO; Termination Style: Gull Wing; Features: Sealed - Flux Protection; Purpose: *
footprint SW - Tact - SMT
pins: 1, 2, 3, 4

## TP - circle - 1 mm
designator TP?, comment Signal  (value not drawn)
footprint TP - TH - 2mm
pins: 1

## TP - TH - 0.6 mm
designator TP?, comment Signal  (value not drawn)
footprint TP - TH - 0.6mm
pins: 1

## TVS - USB - RCLAMP0503F
designator D?, comment RCLAMP0503F
TVS DIODE 5V 25V SC70-5; MFG: Semtech Corp; MFG PN: RCLAMP0503F.TCT; Op Temp: -55°C ~ 125°C (TJ); Type: Steering (Rail to Rail); Voltage - Reverse Standoff (Typ): 5V (Max); Voltage - Breakdown (Min): 6V; Current - Peak Pulse (10/1000µs): 6A (8/20µs); Power - Peak Pulse: 150W; Power Line Protection: Yes; Capacitance @ Frequency: 3pF @ 1MHz; Unidirectional Channels: 3; Digi-Key PN: RCLAMP0503F.TCTCT-ND; Mounting Type: Surface Mount; Package: 5-TSSOP, SC-70-5, SOT-353; Series: RailClamp; Voltage - Clamping (Max) @ Ipp: 25V; Applications: USB OTG; ComponentLink1Description: Datasheet; ComponentLink1URL: E:\!Projects\50. XInC2 Dev 2\git\Datasheets\Semtech - RClamp0503F.pdf; ComponentLink2Description: Online Datasheet; ComponentLink2URL: https://semtech.my.salesforce.com/sfc/p/#E0000000JelG/a/44000000MCna/gSoiWcGuNPdCJXQ9MiJb.gsVfITyRqZHeVmym5XjXO8
footprint SOT 353
pins: 1, 2, 3, 4, 5

## uC - STM32F042F4P6
designator U?, comment STM32F042F4P6
IC MCU 32BIT 16KB FLASH 20TSSOP; MFG: ST; Op Temp: -40°C ~ 85°C (TA); Speed: 48MHz; Core Processor: ARM® Cortex®-M0; Core Size: 32-Bit; Peripherals: DMA, I²S, POR, PWM, WDT; Connectivity: CANbus, HDMI-CEC, I²C, IrDA, LINbus, SPI, UART/USART, USB; Program Memory Size: 16KB (16K x 8); RAM Size: 6K x 8; Voltage - Supply (Vcc/Vdd): 1.65V ~ 3.6V; Data Converters: A/D 12x12b; Number of I/O: 16; ComponentLink1Description: Datasheet; ComponentLink1URL: E:\!Projects\50. XInC2 Dev 2\git\Datasheets\ST - STM32F042F4P6.pdf; ComponentLink2Description: Online Datasheet; ComponentLink2URL: https://www.st.com/content/ccc/resource/technical/document/datasheet/52/ad/d0/80/e6/be/40/ad/DM00105814.pdf/files/DM00105814.pdf/jcr:content/translations/en.DM00105814.pdf; Digi-Key PN: 497-17343-ND; Height: 1.2 mm; MFG PN: STM32F042F4P6; Mounting Type: Surface Mount; Package: 20-TSSOP (0.173"", 4.40mm Width); Price/1 @10: $3.667; Series: STM32F0; Program Memory Type: FLASH
footprint TSSOP 20 (from STM32F042F4P6)
pins: 1 PB8-BOOT0, 2 PF0, 3 PF1, 4 NRST, 5 VDDA, 6 PA0, 7 PA1, 8 PA2, 9 PA3, 10 PA4, 11 PA5, 12 PA6, 13 PA7, 14 PB1, 15 VSS, 16 VDD, 17 PA9/PA11, 18 PA10/PA12, 19 PA13, 20 PA14

## uC - XInC2 - LQFP
designator U?, comment XC1201-R3003
XInC2 Multi-Threaded µC LQFP; MFG: Eleven Engineering; Digi-Key PN: N/A; MFG PN: XC1201-R3003
footprint XInC2 LQFP 100
pins: 0 EPAD, 1 VADC, 2 AN0, 3 AN1, 4 AN2, 5 AN3, 6 GNDADC, 7 VREF, 8 VCC18ADC, 9 GND18ADC, 10 PF1/SDIO2, 11 PF0/SDIO1, 12 PJ0/SDIO0, 13 PJ1/LRCK, 14 PJ2/BCLK, 15 PJ3/MCLK, 16 GNDIOK, 17 VCCK (in), 18 VCC3IO (in), 19 PD7/TMRA3, 20 PD6/TMRA2, 21 PD5/TMRA1, 22 PD4/TMRA0, 23 PC4, 24 PC5, 25 PC6, 26 PC7, 27 mbist_PS_sel, 28 mbist_hold_1, 29 NTC0, 30 PG0/MISO0, 31 PG1/MOSI0, 32 PG2/SCK0, 33 PG3/SEN0, 34 VCC3IO (in), 35 VCCK (in), 36 GNDIOK, 37 PB0, 38 PB1, 39 PB2, 40 PC0, 41 PC1, 42 PC2, 43 PC3, 44 CBO, 45 VCC18XT (in), 46 XTI, 47 XTO, 48 GNDXT, 49 VDC, 50 VPLL (in), 51 GNDPLL, 52 NTC1, 53 TMRB, 54 PD0/MISO1, 55 PD1/MOSI1, 56 PD2/SCK1, 57 PD3/SEN1, 58 PA7, 59 PA6, 60 PA5, 61 PA4, 62 PA3, 63 PA2, 64 PA1, 65 PA0, 66 VCC3IO (in), 67 VCCK (in), 68 GNDIOK, 69 PH0/BB0CLK, 70 PH1/BB0O, 71 PH2/BB0I, 72 PI0/BB1CLK, 73 PI1/BB1O, 74 PI2/BB1I, 75 scan_en, 76 scan_test, 77 TESTP_IP, 78 TEST_M, 79 VCC3IO (in), 80 GNDIO, 81 PE0, 82 PE1, 83 PE2, 84 PE3, 85 PE4, 86 PE5, 87 PE6, 88 PE7, 89 PORDIS, 90 PORRES, 91 /RESET, 92 RCO, 93 RCI, 94 GNDLP, 95 VLP (in), 96 LPPD (out), 97 REGEN, 98 V18 (out), 99 VREG (in), 100 GNDREG
text: Crystal; Control; reserved; RC CLK; I2S; XInC2 (LQFP package); BBU0; BBU1; SPI0; SPI1; ADC; TMRA; Lin.; Power; Reg; GND

## X - 20 MHz - ABLS-20.000MHZ-20-B-3-H-T
designator X?, comment 20 MHz
CRYSTAL 20.0000MHZ 20PF SMD; MFG: Abracon LLC; MFG PN: ABLS-20.000MHZ-20-B-3-H-T; Op Temp: -20°C ~ 70°C; Frequency Stability: ±35ppm; Frequency Tolerance: ±25ppm; Operating Mode: Fundamental; Frequency: 20MHz; ESR: 40 Ohms; Digi-Key PN: 535-15010-1-ND; Height: 4.20mm; Mounting Type: Surface Mount; Package: HC-49/US; Price/1 @10: $0.248; ComponentLink1Description: Datasheet; ComponentLink1URL: E:\!Projects\50. XInC2 Dev 2\git\Datasheets\Abracon - ABLS crystal series.pdf; ComponentLink2Description: Online Datasheet; ComponentLink2URL: https://abracon.com/Resonators/abls.pdf; Series: ABLS; Type: MHz Crystal; Load Capacitance: 20pF
footprint X - HC-49/US (from 535-15010-1-ND)
pins: 1, 2

## X - 20 MHz - HJ24.576
designator X?, comment 24.576MHz
CRYSTAL 24.576MHZ SMD; MFG: Huijing; Op Temp: -20°C - +70°C; Frequency Stability: ±10PPM Max. / -20°C~+70°C; Frequency Tolerance: ±10PPM; Load Capacitance: 20pF; Operating Mode: Fund (AT Cut); ESR: 50Ω Max./Series; Digi-Key PN: N/A; Height: 4mm; MFG PN: N/A; Mounting Type: Surface Mount; Package: HC-49; Price/1 @10: -; ComponentLink1Description: Datasheet; ComponentLink1URL: E:\!Projects\50. XInC2 Dev 2\git\Datasheets\Huijing - 49SMD 24.576MHz.pdf; Series: -; Type: MHz Crystal; Frequency: 24.576MHz
footprint X - HC-49/US (from 535-15010-1-ND)
pins: 1, 2

## XInC2 Dev 2 Shield
designator H?, comment XInC2 Dev Headers
Two 2x16 female headers than mate with a XInC2 Dev Board
footprint XInC2 Dev Shield
part A pins: 1 GND, 2 5V, 3 GND, 4 3V3, 5 CBO, 6 TMRB, 7 GND, 8 GND, 9 PD0, 10 PD1, 11 PD2, 12 PD3, 13 PA7, 14 PA6, 15 PA5, 16 PA4, 17 PA3, 18 PA2, 19 PA1, 20 PA0, 21 PH0, 22 PH1, 23 PH2, 24 PI0, 25 PI1, 26 PI2, 27 GND, 28 GND, 29 PE0, 30 PE1, 31 PE2, 32 PE3, 33 PE4, 34 PE5, 35 PE6, 36 PE7
part B pins: 37 /RST, 38 GND, 39 PC0, 40 PC1, 41 PC2, 42 PC3, 43 PC4, 44 PC5, 45 PC6, 46 PC7, 47 PD4, 48 PD5, 49 PD6, 50 PD7, 51 PJ3, 52 GND, 53 PJ2, 54 GND, 55 PJ1, 56 GND, 57 PJ0, 58 GND, 59 PF0, 60 GND, 61 PF1, 62 GND, 63 GND, 64 GND, 65 AN3, 66 GND, 67 AN2, 68 GND, 69 AN1, 70 GND, 71 AN0, 72 GND